# Altium footprint library Footprint Library.PcbLib: 53 footprints (part 4 of 4)
Each footprint in its own frame and in the unit in brackets; x right, y up, seen from the top. Pads: shape width x height; smd on the part's side, far side on the other; paste and mask are expansions set on the pad; w line width, h text height; cw(c..) or ccw(c..) is an arc to the next point about the centre after c.
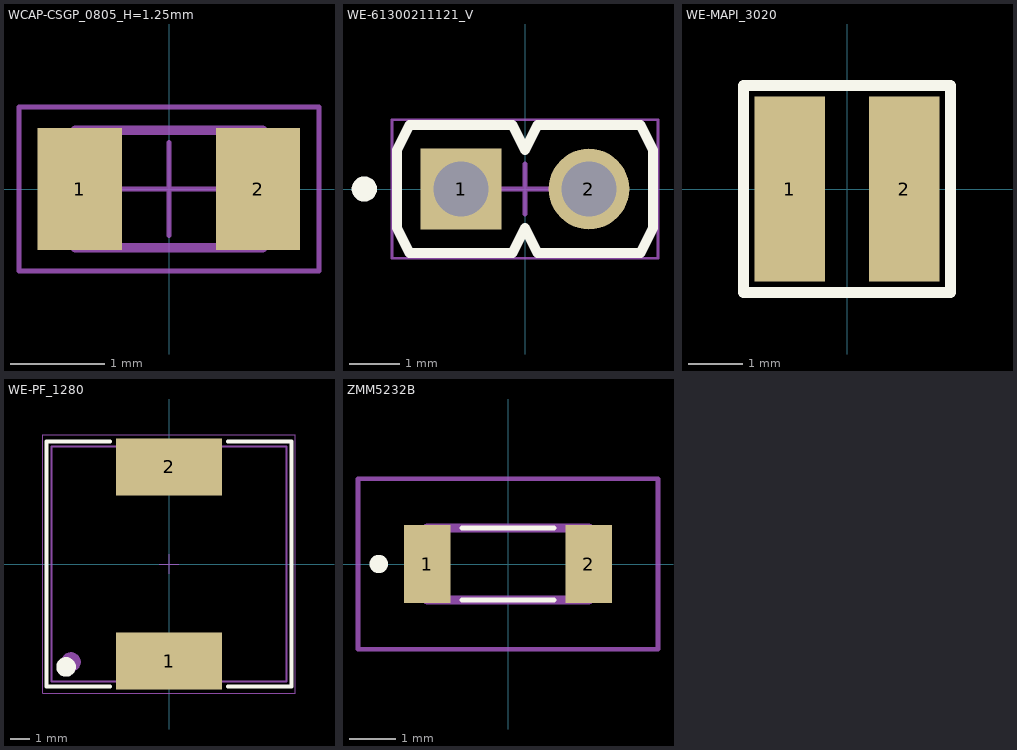
[diagram p3: the footprints below, top view; thin cyan lines are the x and y axes]

## WCAP-CSGP_0805_H=1.25mm [mm] "Ceramic Capacitors, body 2x1.25mm"
height 1.35
pads (2):
  rect 0.9x1.3 smd: 1(-0.95,0) 2(0.95,0)
Mechanical 11:
  lines w0.1: -1,-0.625 -1,0.625 1,0.625 1,-0.625 -1,-0.625
  text ".Designator" at -0.81,-0.35 h0.7
Mechanical 13:
  lines w0.1: -1,-0.625 1,-0.625 1,0.625 -1,0.625 -1,-0.625
Mechanical 15:
  lines w0.05: -0.5,0 0.5,0 ; 0,-0.5 0,0.5 ; -1.6,-0.875 1.6,-0.875 1.6,0.875 -1.6,0.875 -1.6,-0.875
3D body "2x1.25x1.25x0.5.stp": height 1.25, standoff 0, extent -1,-0.625 1,0.625

## WE-61300211121_V [mm] "Header, 2-Leads, Body 5.08x2.54mm, Pitch 2.54mm"
height 8.54
pads (2):
  rect 1.6x1.6 hole 1.1: 1(-1.27,0)
  round 1.6 hole 1.1: 2(1.27,0)
Top Overlay:
  circle w0.25: c-3.19,0 r0.125
  lines w0.2: -2.54,-0.77 -2.54,0.77 -2.29,1.27 -0.25,1.27 0,0.77 0.25,1.27 2.29,1.27 2.54,0.77 2.54,-0.77 2.29,-1.27 0.25,-1.27 0,-0.77 -0.25,-1.27 -2.29,-1.27 -2.54,-0.77
Mechanical 13:
  lines w0.1: -2.54,-0.77 -2.29,-1.27 -0.25,-1.27 0,-0.77 0.25,-1.27 2.29,-1.27 2.54,-0.77 2.54,0.77 2.29,1.27 0.25,1.27 0,0.77 -0.25,1.27 -2.29,1.27 -2.54,0.77 -2.54,-0.77
Mechanical 15:
  lines w0.05: -2.64,-1.37 2.64,-1.37 2.64,1.37 -2.64,1.37 -2.64,-1.37
  lines w0.1: -0.5,0 0.5,0 ; 0,-0.5 0,0.5
3D body "STEP-61300211121-rev1.stp": height 8.54, standoff -3, extent -2.54,-1.27 2.54,1.27

## WE-MAPI_3020 [mm]
pads (2):
  rect 1.3x3.4 smd: 1(-1.05,0) 2(1.05,0)
Top Overlay:
  lines w0.2: -1.9,-1.9 1.9,-1.9 1.9,1.9 -1.9,1.9 -1.9,-1.9

## WE-PF_1280 [mm] "SMD EMI Suppression Power  Ferrite, body 12x12mm"
height 8
pads (2):
  rect 5.4x2.9 smd: 1(0,-4.95) 2(0,4.95)
Top Overlay:
  circle w0.5: c-5.25,-5.25 r0.25
  lines w0.2: -3,-6.25 -6.25,-6.25 -6.25,6.25 -3,6.25 ; 3,-6.25 6.25,-6.25 6.25,6.25 3,6.25
Mechanical 13:
  circle w0.5: c-5,-5 r0.25
  lines w0.1: -6,-6 6,-6 6,6 -6,6 -6,-6
Mechanical 15:
  lines w0.05: -0.5,0 0.5,0 ; 0,-0.5 0,0.5 ; -6.45,-6.6 6.45,-6.6 6.45,6.6 -6.45,6.6 -6.45,-6.6
3D body "WE-PF_1280_PF.stp": height 8, standoff 0, extent -6,-6 6,6

## ZMM5232B [mm]
pads (2):
  rect 1x1.7 smd: 1(-1.75,0) 2(1.75,0)
Top Overlay:
  lines w0.1: -1,-0.78 1,-0.78 ; -1,0.78 1,0.78
  lines w0.2: -2.8,-0.1 cw(c-2.8,0) -2.8,0.1 cw(c-2.8,0) -2.8,-0.1
Mechanical 13:
  lines w0.2: -1.75,-0.78 1.75,-0.78 1.75,0.78 -1.75,0.78 -1.75,-0.78
Mechanical 15:
  lines w0.1: -3.25,-1.85 3.25,-1.85 3.25,1.85 -3.25,1.85 -3.25,-1.85